# EAGLE library part LPC824M201JDH20 (library SquantorNxp)
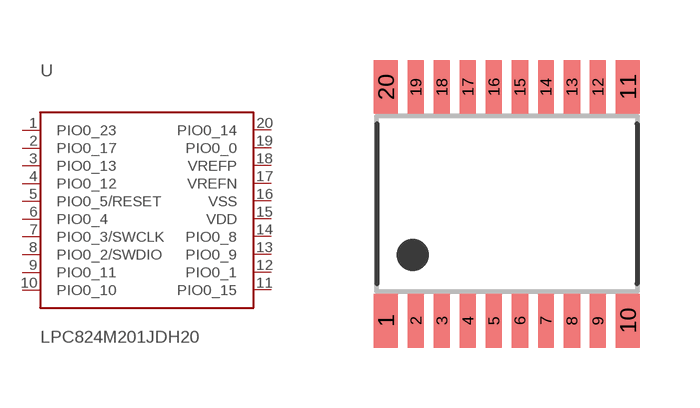
[diagram p13: symbol with the pads of SOT360; footprint SOT360]

Designator prefix -

## LPC824M201JDH20  [SOT360]
1  PIO0_23
2  PIO0_17
3  PIO0_13
4  PIO0_12
5  PIO0_5/RESET
6  PIO0_4
7  PIO0_3/SWCLK
8  PIO0_2/SWDIO
9  PIO0_11
10  PIO0_10
11  PIO0_15
12  PIO0_1
13  PIO0_9
14  PIO0_8
15  VDD
16  VSS
17  VREFN
18  VREFP
19  PIO0_0
20  PIO0_14

## Footprint SOT360 (pad centres in mm)
SOT360 TSSOP20: plastic thin shrink small outline package; 20 leads; body width 4.4 mm JEDEC: MO-153 IEC:
smd 0.6 x 1.35: 1 -3.025,-2.925; 10 3.025,-2.925; 11 3.025,2.925; 20 -3.025,2.925
smd 0.4 x 1.35: 2 -2.275,-2.925; 3 -1.625,-2.925; 4 -0.975,-2.925; 5 -0.325,-2.925; 6 0.325,-2.925; 7 0.975,-2.925; 8 1.625,-2.925; 9 2.275,-2.925; 12 2.275,2.925; 13 1.625,2.925; 14 0.975,2.925; 15 0.325,2.925; 16 -0.325,2.925; 17 -0.975,2.925; 18 -1.625,2.925; 19 -2.275,2.925